# EAGLE library part BME280 (library BME280)
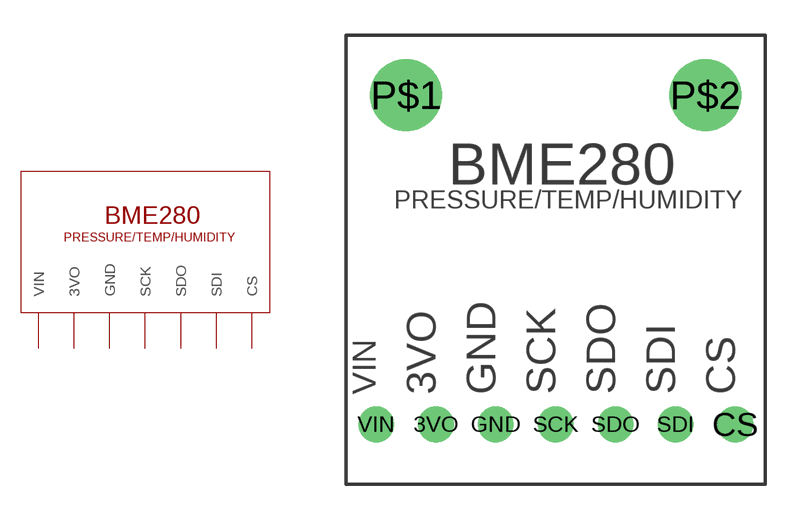
[diagram p0: symbol with the pads of BME280; footprint BME280]

Designator prefix -

## BME280  [BME280]
3VO  3VO
CS  CS
GND  GND
SCK  SCK
SDI  SDI
SDO  SDO
VIN  VIN

## Footprint BME280 (pad centres in mm)
drill 1: 3VO 3.81,2.54; CS 16.51,2.54; GND 6.35,2.54; SCK 8.89,2.54; SDI 13.97,2.54; SDO 11.43,2.54; VIN 1.27,2.54
drill 2.032: P$1 2.54,16.51; P$2 15.24,16.51